# EAGLE library part LM75 (library n39)
I²C Digitaler Temperatursensor, SO-8 Reichelt: LM 75 SMD <https://secure.reichelt.de/index.html?ARTICLE=49349>
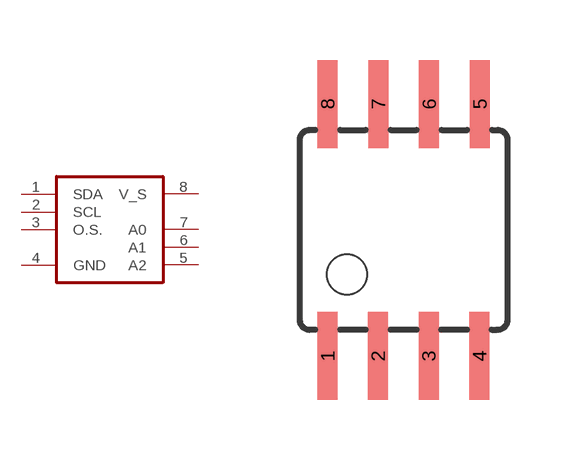
[diagram p4: symbol with the pads of SOIC8; footprint SOIC8]

Designator prefix -

## LM75 (REICHELT: LM 75 SMD)  [SOIC8]
1  SDA
2  SCL
3  O.S.  oc
4  GND  pwr
5  A2  in
6  A1  in
7  A0  in
8  V_S  pwr

## Footprint SOIC8 (pad centres in mm)
8-Lead Small Outline Package
smd 0.5 x 2.2: 1 -1.905,-3.154; 2 -0.645,-3.154; 3 0.625,-3.154; 4 1.895,-3.154; 5 1.905,3.154; 6 0.635,3.154; 7 -0.635,3.154; 8 -1.905,3.154